# Altium footprint library KEMET_R60MI41005030K.PcbLib: 1 footprints
Each footprint in its own frame and in the unit in brackets; x right, y up, seen from the top. Pads: shape width x height; smd on the part's side, far side on the other; paste and mask are expansions set on the pad; w line width, h text height; cw(c..) or ccw(c..) is an arc to the next point about the centre after c.
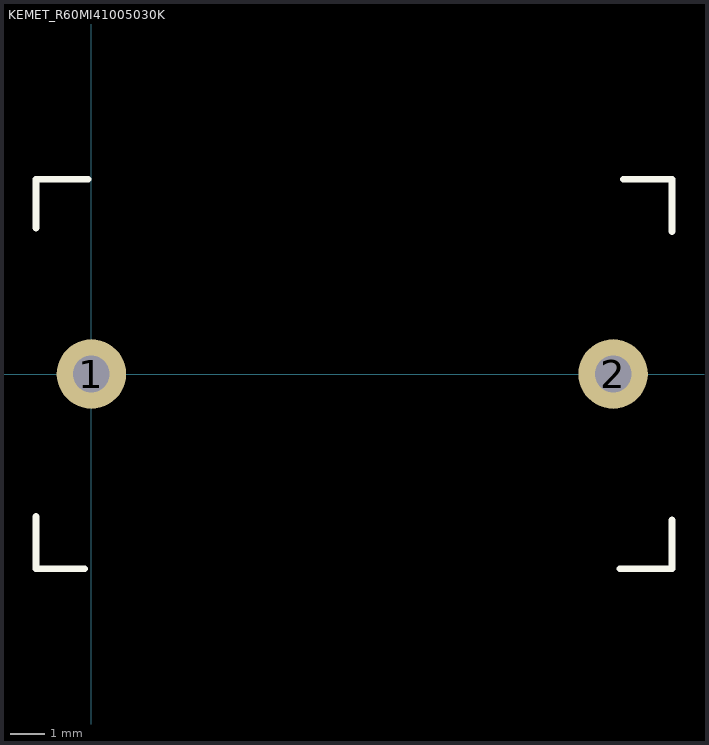
[diagram p0: the footprint, top view; thin cyan lines are the x and y axes]

## KEMET_R60MI41005030K [mm] "Kemet R60 series film capacitor"
pads (2):
  round 2 hole 1.05: 1(0,0) 2(15,0)
Top Overlay:
  lines w0.2: -1.6,-4.1 -1.6,-5.6 -0.2,-5.6 ; -1.6,4.2 -1.6,5.6 -0.1,5.6 ; 15.2,-5.6 16.7,-5.6 16.7,-4.2 ; 15.3,5.6 16.7,5.6 16.7,4.1
3D body "R60MI41005030K.step": height 19.1, standoff -27, extent -1.6,-5.605 16.7,5.6